# Altium footprint library Displays.PcbLib: 1 footprints
Each footprint in its own frame and in the unit in brackets; x right, y up, seen from the top. Pads: shape width x height; smd on the part's side, far side on the other; paste and mask are expansions set on the pad; w line width, h text height; cw(c..) or ccw(c..) is an arc to the next point about the centre after c.
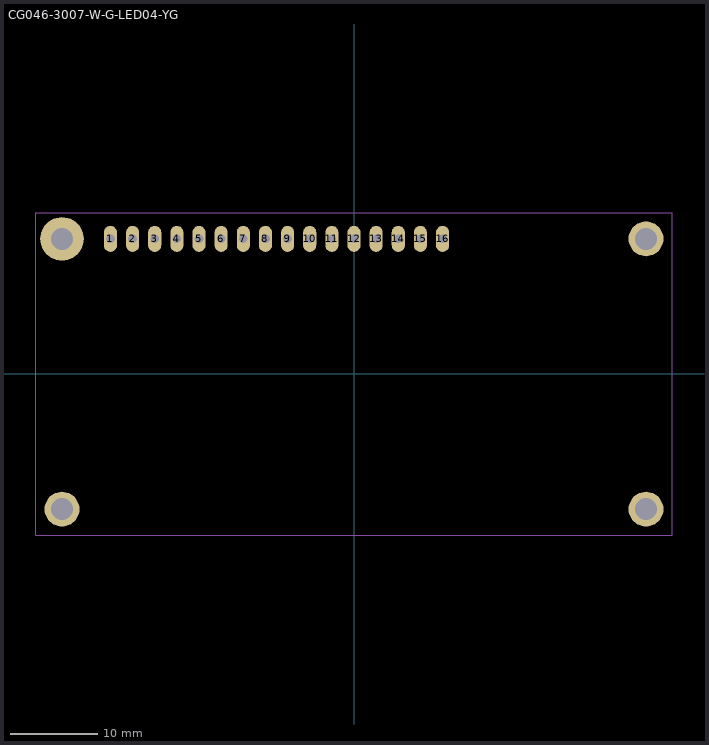
[diagram p0: the footprint, top view; thin cyan lines are the x and y axes]

## CG046-3007-W-G-LED04-YG [mm] "TRI-T Company Ltd."
pads (20):
  oval 1.5x3 hole 1: 1(-27.94,15.5) 2(-25.4,15.5) 3(-22.86,15.5) 4(-20.32,15.5) 5(-17.78,15.5) 6(-15.24,15.5) 7(-12.7,15.5) 8(-10.16,15.5) 9(-7.62,15.5) 10(-5.08,15.5) 11(-2.54,15.5) 12(0,15.5) 13(2.54,15.5) 14(5.08,15.5) 15(7.62,15.5) 16(10.16,15.5)
  round 4 hole 2.5: ""(-33.5,-15.5) ""(33.5,-15.5) ""(33.5,15.5)
  round 5 hole 2.5: ""(-33.5,15.5)
Mechanical 15:
  lines w0.1: -36.5,-18.5 36.5,-18.5 36.5,18.5 -36.5,18.5 -36.5,-18.5
  text ".designator" at -1.5,-0.5 h1